# Altium schematic symbol library Res1.Schlib: 1 symbol
Pins are listed as number, name and electrical type; pins without a type are passive.

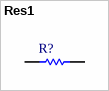
[diagram p0: symbol Res1]

## Res1
designator R?  (value not drawn)
Resistor
pins: 1, 2